# EAGLE library part WF111 (library jetney-silabs-modules)
Bluegiga WF111 802.11b/g/n SDIO HCI wi-fi module. WF111-A variant has an on-module ceramic chip antenna, WF111-E variant has a U.Fl connector. WF111-A variant includes keepout/restrict area. Antenna edge of the module should be flush up against the edge of the PCB. See datasheet for variant layout details. The WF111 is a fully integrated single 2.4GHz band 802.11 b/g/n module designed for portable and battery-powered applications that need Wi-Fi connectivity. The WF111 integrates an IEEE 802.11 b/g/n radio, antenna or U.FL antenna connector, and SDIO host interface. It provides a low cost and simple Wi-Fi solution for devices that run an operating system and a TCP/IP stack on-board, but still offers the benefits of a module – small form factor, certifications, and easy integration. Bluegiga also offers WF111 drivers for the Linux and Android operating systems. The WF111 has hardware support for Wi-Fi encryption protocols and for many co-existence schemes that enable exceptional performance when using IEEE 802.11 and Bluetooth simultaneously. http://www.bluegiga.com/en-US/products/wifi-modules/wf111-wifi-module https://github.com/jrowberg/sf-oshw Last updated 2014-01-04 by Jeff Rowberg <jeff@rowberg.net>
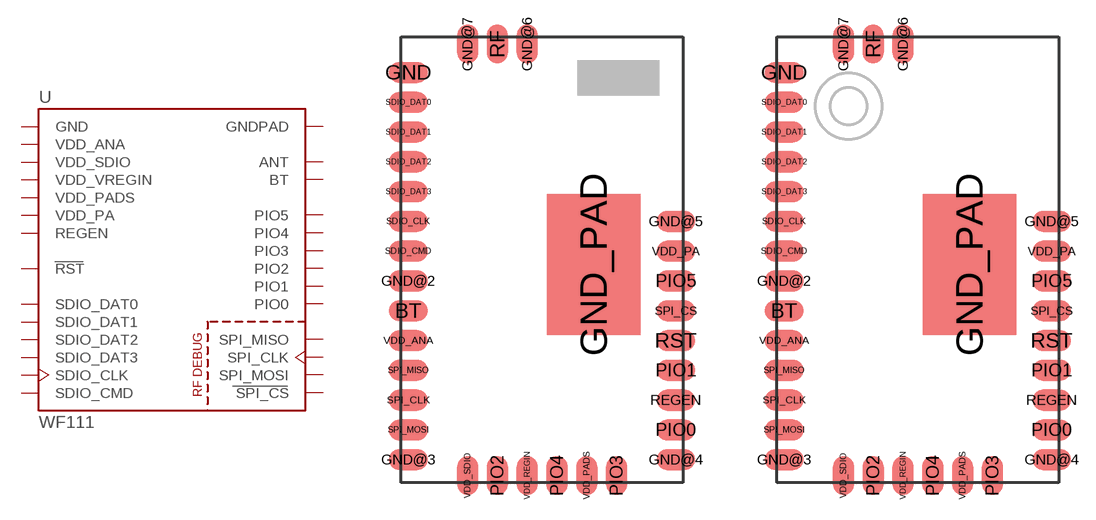
[diagram p18: symbol with the pads of WF111-A; footprints WF111-A, WF111-E]

Designator prefix U

## WF111-A (ANTENNA: On-module ceramic chip antenna)  [WF111-A]
BT  BT  in
GND  GND  pwr
GND@2  GND  pwr
GND@3  GND  pwr
GND@4  GND  pwr
GND@5  GND  pwr
GND@6  GND  pwr
GND@7  GND  pwr
GND_PAD  GNDPAD  pwr
PIO0  PIO0
PIO1  PIO1
PIO2  PIO2
PIO3  PIO3
PIO4  PIO4
PIO5  PIO5
REGEN  REGEN  in
RF  ANT  out
RST  RST  in
SDIO_CLK  SDIO_CLK
SDIO_CMD  SDIO_CMD
SDIO_DAT0  SDIO_DAT0
SDIO_DAT1  SDIO_DAT1
SDIO_DAT2  SDIO_DAT2
SDIO_DAT3  SDIO_DAT3
SPI_CLK  SPI_CLK  in
SPI_CS  SPI_CS  in
SPI_MISO  SPI_MISO  out
SPI_MOSI  SPI_MOSI  in
VDD_ANA  VDD_ANA  pwr
VDD_PA  VDD_PA  pwr
VDD_PADS  VDD_PADS  pwr
VDD_REGIN  VDD_VREGIN  pwr
VDD_SDIO  VDD_SDIO  pwr

## WF111-E (ANTENNA: U.Fl connector)  [WF111-E]
Pads as for WF111-A

## Footprint WF111-A (pad centres in mm)
Bluegiga WF111 802.11b/g/n SDIO HCI wi-fi module. WF111-A variant has an on-module ceramic chip antenna. WF111-A variant includes keepout/restrict area. Antenna edge of the module should be flush up against the edge of the PCB. See datasheet for variant layout details. The WF111 is a fully integrated single 2.4GHz band 802.11 b/g/n module designed for portable and battery-powered applications that need Wi-Fi connectivity. The WF111 integrates an IEEE 802.11 b/g/n radio, antenna or U.FL antenna connector, and SDIO host interface. It provides a low cost and simple Wi-Fi solution for devices that run an operating system and a TCP/IP stack on-board, but still offers the benefits of a module – small form factor, certifications, and easy integration. Bluegiga also offers WF111 drivers for the Linux and Android operating systems. The WF111 has hardware support for Wi-Fi encryption protocols and for many co-existence schemes that enable exceptional performance when using IEEE 802.11 and Bluetooth simultaneously. http://www.bluegiga.com/en-US/products/wifi-modules/wf111-wifi-module https://github.com/jrowberg/sf-oshw Last updated 2014-01-04 by Jeff Rowberg <jeff@rowberg.net>
smd 1.65 x 0.9: BT -5.7,-2.175; GND -5.7,7.985; GND@2 -5.7,-0.905; GND@3 -5.7,-8.525; GND@4 5.7,-8.525; GND@5 5.7,1.635; PIO0 5.7,-7.255; PIO1 5.7,-4.715; PIO5 5.7,-0.905; REGEN 5.7,-5.985; RST 5.7,-3.445; SDIO_CLK -5.7,1.635; SDIO_CMD -5.7,0.365; SDIO_DAT0 -5.7,6.715; SDIO_DAT1 -5.7,5.445; SDIO_DAT2 -5.7,4.175; SDIO_DAT3 -5.7,2.905; SPI_CLK -5.7,-5.985; SPI_CS 5.7,-2.175; SPI_MISO -5.7,-4.715; SPI_MOSI -5.7,-7.255; VDD_ANA -5.7,-3.445; VDD_PA 5.7,0.365
smd 0.9 x 1.65: GND@6 -0.635,9.2; GND@7 -3.175,9.2; PIO2 -1.905,-9.2; PIO3 3.175,-9.2; PIO4 0.635,-9.2; RF -1.905,9.2; VDD_PADS 1.905,-9.2; VDD_REGIN -0.635,-9.2; VDD_SDIO -3.175,-9.2
smd 4 x 6: GND_PAD 2.2,-0.2

## Footprint WF111-E (pad centres in mm)
Bluegiga WF111 802.11b/g/n SDIO HCI wi-fi module. WF111-E variant has a U.Fl connector for RF output. See datasheet for variant layout details. The WF111 is a fully integrated single 2.4GHz band 802.11 b/g/n module designed for portable and battery-powered applications that need Wi-Fi connectivity. The WF111 integrates an IEEE 802.11 b/g/n radio, antenna or U.FL antenna connector, and SDIO host interface. It provides a low cost and simple Wi-Fi solution for devices that run an operating system and a TCP/IP stack on-board, but still offers the benefits of a module – small form factor, certifications, and easy integration. Bluegiga also offers WF111 drivers for the Linux and Android operating systems. The WF111 has hardware support for Wi-Fi encryption protocols and for many co-existence schemes that enable exceptional performance when using IEEE 802.11 and Bluetooth simultaneously. http://www.bluegiga.com/en-US/products/wifi-modules/wf111-wifi-module https://github.com/jrowberg/sf-oshw Last updated 2014-01-04 by Jeff Rowberg <jeff@rowberg.net>
smd 1.65 x 0.9: BT -5.7,-2.175; GND -5.7,7.985; GND@2 -5.7,-0.905; GND@3 -5.7,-8.525; GND@4 5.7,-8.525; GND@5 5.7,1.635; PIO0 5.7,-7.255; PIO1 5.7,-4.715; PIO5 5.7,-0.905; REGEN 5.7,-5.985; RST 5.7,-3.445; SDIO_CLK -5.7,1.635; SDIO_CMD -5.7,0.365; SDIO_DAT0 -5.7,6.715; SDIO_DAT1 -5.7,5.445; SDIO_DAT2 -5.7,4.175; SDIO_DAT3 -5.7,2.905; SPI_CLK -5.7,-5.985; SPI_CS 5.7,-2.175; SPI_MISO -5.7,-4.715; SPI_MOSI -5.7,-7.255; VDD_ANA -5.7,-3.445; VDD_PA 5.7,0.365
smd 0.9 x 1.65: GND@6 -0.635,9.2; GND@7 -3.175,9.2; PIO2 -1.905,-9.2; PIO3 3.175,-9.2; PIO4 0.635,-9.2; RF -1.905,9.2; VDD_PADS 1.905,-9.2; VDD_REGIN -0.635,-9.2; VDD_SDIO -3.175,-9.2
smd 4 x 6: GND_PAD 2.2,-0.2